# EAGLE library part 146134-36 (library con-tyco-mod-II)
HEADER
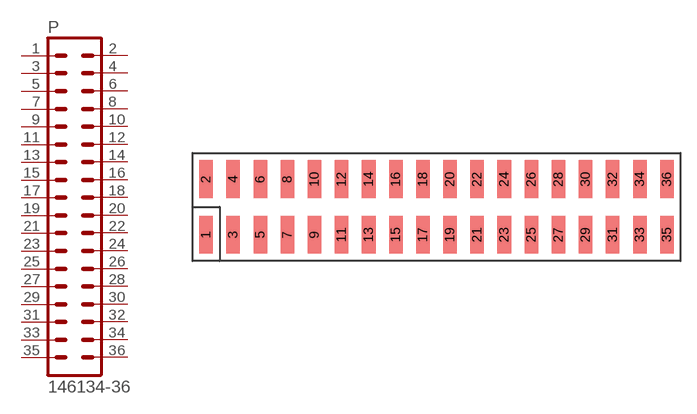
[diagram p15: symbol with the pads of 146134-36; footprint 146134-36]

Designator prefix P

## 146134-36  [146134-36]
1  1  pas
2  2  pas
3  3  pas
4  4  pas
5  5  pas
6  6  pas
7  7  pas
8  8  pas
9  9  pas
10  10  pas
11  11  pas
12  12  pas
13  13  pas
14  14  pas
15  15  pas
16  16  pas
17  17  pas
18  18  pas
19  19  pas
20  20  pas
21  21  pas
22  22  pas
23  23  pas
24  24  pas
25  25  pas
26  26  pas
27  27  pas
28  28  pas
29  29  pas
30  30  pas
31  31  pas
32  32  pas
33  33  pas
34  34  pas
35  35  pas
36  36  pas

## Footprint 146134-36 (pad centres in mm)
HEADER
smd 1.27 x 3.556: 1 -21.59,-2.603; 2 -21.59,2.603; 3 -19.05,-2.603; 4 -19.05,2.603; 5 -16.51,-2.603; 6 -16.51,2.603; 7 -13.97,-2.603; 8 -13.97,2.603; 9 -11.43,-2.603; 10 -11.43,2.603; 11 -8.89,-2.603; 12 -8.89,2.603; 13 -6.35,-2.603; 14 -6.35,2.603; 15 -3.81,-2.603; 16 -3.81,2.603; 17 -1.27,-2.603; 18 -1.27,2.603; 19 1.27,-2.603; 20 1.27,2.603; 21 3.81,-2.603; 22 3.81,2.603; 23 6.35,-2.603; 24 6.35,2.603; 25 8.89,-2.603; 26 8.89,2.603; 27 11.43,-2.603; 28 11.43,2.603; 29 13.97,-2.603; 30 13.97,2.603; 31 16.51,-2.603; 32 16.51,2.603; 33 19.05,-2.603; 34 19.05,2.603; 35 21.59,-2.603; 36 21.59,2.603